# Altium footprint library PMIC.PcbLib: 19 footprints (part 2 of 2)
Each footprint in its own frame and in the unit in brackets; x right, y up, seen from the top. Pads: shape width x height; smd on the part's side, far side on the other; paste and mask are expansions set on the pad; w line width, h text height; cw(c..) or ccw(c..) is an arc to the next point about the centre after c.
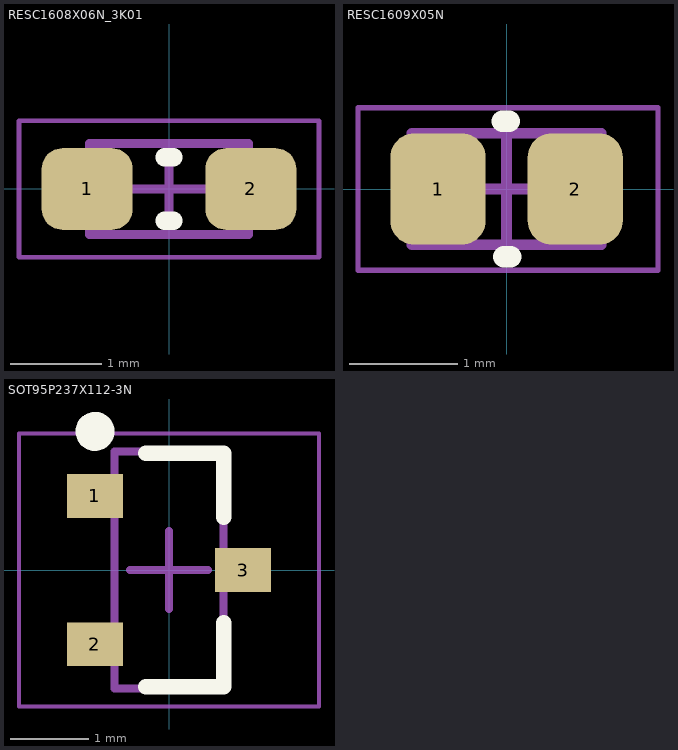
[diagram p1: the footprints below, top view; thin cyan lines are the x and y axes]

## RESC1608X06N_3K01 [mm] "3.01k, Chip Resistor, 2-Leads, Body 1.55x0.80mm, IPC Medium Density"
height 0.55
pads (2):
  rrect50% 1x0.9 smd: 1(-0.9,0) 2(0.9,0)
Top Overlay:
  lines w0.2: -0.05,-0.35 0.05,-0.35 ; -0.05,0.35 0.05,0.35
Mechanical 13:
  lines w0.1: -0.875,-0.5 -0.875,0.5 0.875,0.5 0.875,-0.5 -0.875,-0.5
  text ".Designator" at -0.6,-0.342 h0.4
Mechanical 15:
  lines w0.05: -1.65,-0.75 -1.65,0.75 1.65,0.75 1.65,-0.75 -1.65,-0.75
  lines w0.1: -0.5,0 0.5,0 ; 0,-0.5 0,0.5
3D body "RNCS0603_stp.stp": height 0.44, standoff -0.01, extent -0.775,-0.4 0.775,0.4

## RESC1609X05N [mm] "1k ohm, Chip Resistor, 2-Leads, Body 1.60x0.90mm, IPC Medium Density"
height 0.51
pads (2):
  rrect50% 0.88x1.03 smd: 1(-0.635,0) 2(0.635,0)
Top Overlay:
  lines w0.2: -0.038,0.625 0.025,0.625 ; -0.025,-0.625 0.038,-0.625
Mechanical 13:
  lines w0.1: -0.875,-0.515 0.875,-0.515 0.875,0.515 -0.875,0.515 -0.875,-0.515
  text ".Designator" at -0.56,-0.326 h0.4
Mechanical 15:
  lines w0.05: -1.375,-0.75 1.4,-0.75 1.4,0.75 -1.375,0.75 -1.375,-0.75
  lines w0.1: -0.5,0 0.5,0 ; 0,-0.5 0,0.5
3D body "RESC1609X05N.step": height 0.51, standoff 0, extent -0.875,-0.515 0.875,0.515

## SOT95P237X112-3N [mm] "SOT23, 3-Leads, Body 2.92x2.37mm, Pitch 0.95mm, IPC Medium Density"
height 1.12
pads (3):
  rect 0.724x0.559 smd: 1(-0.95,0.95) 2(-0.95,-0.95) 3(0.95,0)
Top Overlay:
  circle w0.25: c-0.95,1.78 r0.125
  lines w0.2: -0.3,-1.5 0.7,-1.5 0.7,-0.679 ; -0.3,1.5 0.7,1.5 0.7,0.68
Mechanical 13:
  lines w0.1: -0.7,-1.52 0.7,-1.52 0.7,1.52 -0.7,1.52 -0.7,-1.52
  text ".Designator" at -0.421,-1.263 h1
Mechanical 15:
  lines w0.05: -1.925,-1.75 1.925,-1.75 1.925,1.75 -1.925,1.75 -1.925,-1.75
  lines w0.1: -0.5,0 0.5,0 ; 0,-0.5 0,0.5
3D body: height 1.12, standoff 0.01, extent -0.7,-1.52 0.7,1.52